# Altium footprint library SAMTEC_TMM-130-01-X-D-RA.PcbLib: 1 footprints
Each footprint in its own frame and in the unit in brackets; x right, y up, seen from the top. Pads: shape width x height; smd on the part's side, far side on the other; paste and mask are expansions set on the pad; w line width, h text height; cw(c..) or ccw(c..) is an arc to the next point about the centre after c.
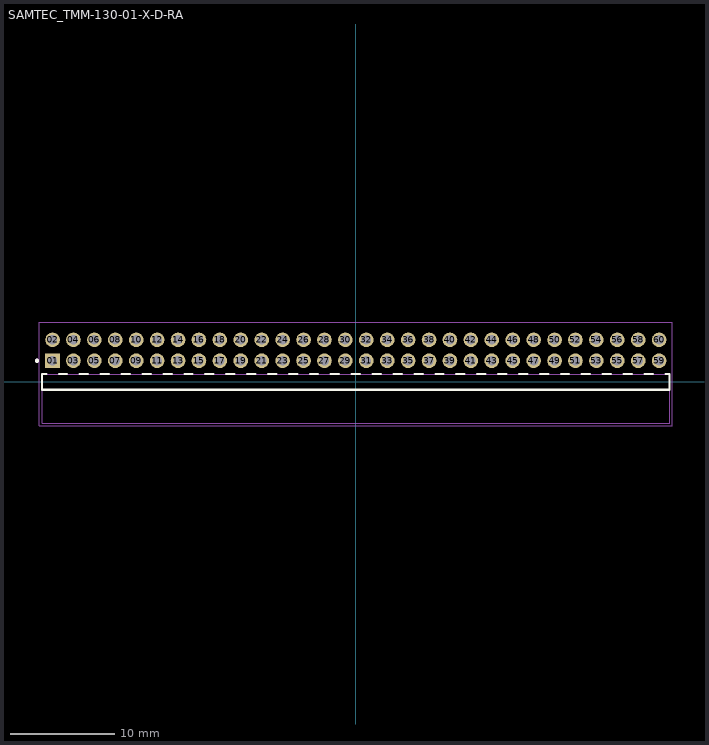
[diagram p0: the footprint, top view; thin cyan lines are the x and y axes]

## SAMTEC_TMM-130-01-X-D-RA [mil]
height 155.12
pads (60):
  rect 55x55 / inner round 55 / far side rect 55x55 hole 35: 01(-1141.73,79.5)
  round 55 hole 35: 02(-1141.73,158.24) 03(-1062.99,79.5) 04(-1062.99,158.24) 05(-984.25,79.5) 06(-984.25,158.24) 07(-905.51,79.5) 08(-905.51,158.24) 09(-826.77,79.5) 10(-826.77,158.24) 11(-748.03,79.5) 12(-748.03,158.24) 13(-669.29,79.5) 14(-669.29,158.24) 15(-590.55,79.5) 16(-590.55,158.24) 17(-511.81,79.5) 18(-511.81,158.24) 19(-433.07,79.5) 20(-433.07,158.24) 21(-354.33,79.5) 22(-354.33,158.24) 23(-275.59,79.5) 24(-275.59,158.24) 25(-196.85,79.5) 26(-196.85,158.24) 27(-118.11,79.5) 28(-118.11,158.24) 29(-39.37,79.5) 30(-39.37,158.24) 31(39.37,79.5) 32(39.37,158.24) 33(118.11,79.5) 34(118.11,158.24) 35(196.85,79.5) 36(196.85,158.24) 37(275.59,79.5) 38(275.59,158.24) 39(354.33,79.5) 40(354.33,158.24) 41(433.07,79.5) 42(433.07,158.24) 43(511.81,79.5) 44(511.81,158.24) 45(590.55,79.5) 46(590.55,158.24) 47(669.29,79.5) 48(669.29,158.24) 49(748.03,79.5) 50(748.03,158.24) 51(826.77,79.5) 52(826.77,158.24) 53(905.51,79.5) 54(905.51,158.24) 55(984.25,79.5) 56(984.25,158.24) 57(1062.99,79.5) 58(1062.99,158.24) 59(1141.73,79.5) 60(1141.73,158.24)
Top Overlay:
  circle w7.87: c-1200.79,79.53 r3.94
  lines w7.87: -1165.55,29.5 -1181.1,29.5 -1181.1,-29.5 1181.1,-29.5 1181.1,29.5 1165.55,29.5 ; -1117.95,29.5 -1086.77,29.5 ; -1039.21,29.5 -1008.03,29.5 ; -960.47,29.5 -929.29,29.5 ; -881.73,29.5 -850.55,29.5 ; -802.99,29.5 -771.81,29.5 ; -724.25,29.5 -693.07,29.5 ; -645.51,29.5 -614.33,29.5 ; -566.77,29.5 -535.59,29.5 ; -488.03,29.5 -456.85,29.5 ; -409.29,29.5 -378.11,29.5 ; -330.55,29.5 -299.37,29.5 ; -251.81,29.5 -220.63,29.5 ; -173.07,29.5 -141.89,29.5 ; -94.33,29.5 -63.15,29.5 ; -15.59,29.5 15.59,29.5 ; 63.15,29.5 94.33,29.5 ; 141.89,29.5 173.07,29.5 ; 220.63,29.5 251.81,29.5 ; 299.37,29.5 330.55,29.5 ; 378.11,29.5 409.29,29.5 ; 456.85,29.5 488.03,29.5 ; 535.59,29.5 566.77,29.5 ; 614.33,29.5 645.51,29.5 ; 693.07,29.5 724.25,29.5 ; 771.81,29.5 802.99,29.5 ; 850.55,29.5 881.73,29.5 ; 929.29,29.5 960.47,29.5 ; 1008.03,29.5 1039.21,29.5 ; 1086.77,29.5 1117.95,29.5
Top Paste:
  drawing of 60 lines, arcs and shapes, not listed
Assembly Top:
  circle w7.87: c-1200.79,79.53 r3.94
  lines w3.94: -1181.1,-29.5 -1181.1,-155.5 1181.1,-155.5 1181.1,-29.5 ; -1181.1,-29.5 1181.1,-29.5 ; -1181.1,-29.5 -1181.1,29.5 1181.1,29.5 1181.1,-29.5
Courtyard Top:
  lines w1.97: -1190.94,-165.34 1190.94,-165.34 1190.94,224.71 -1190.94,224.71 -1190.94,-165.34
3D body "TMM-130-01-S-D-RA.stp": height 157.5, standoff -117.5, extent -1181.1,-155 1181.1,168.74